# Altium footprint library PowerSupply.PcbLib: 19 footprints (part 1 of 2)
Each footprint in its own frame and in the unit in brackets; x right, y up, seen from the top. Pads: shape width x height; smd on the part's side, far side on the other; paste and mask are expansions set on the pad; w line width, h text height; cw(c..) or ccw(c..) is an arc to the next point about the centre after c.
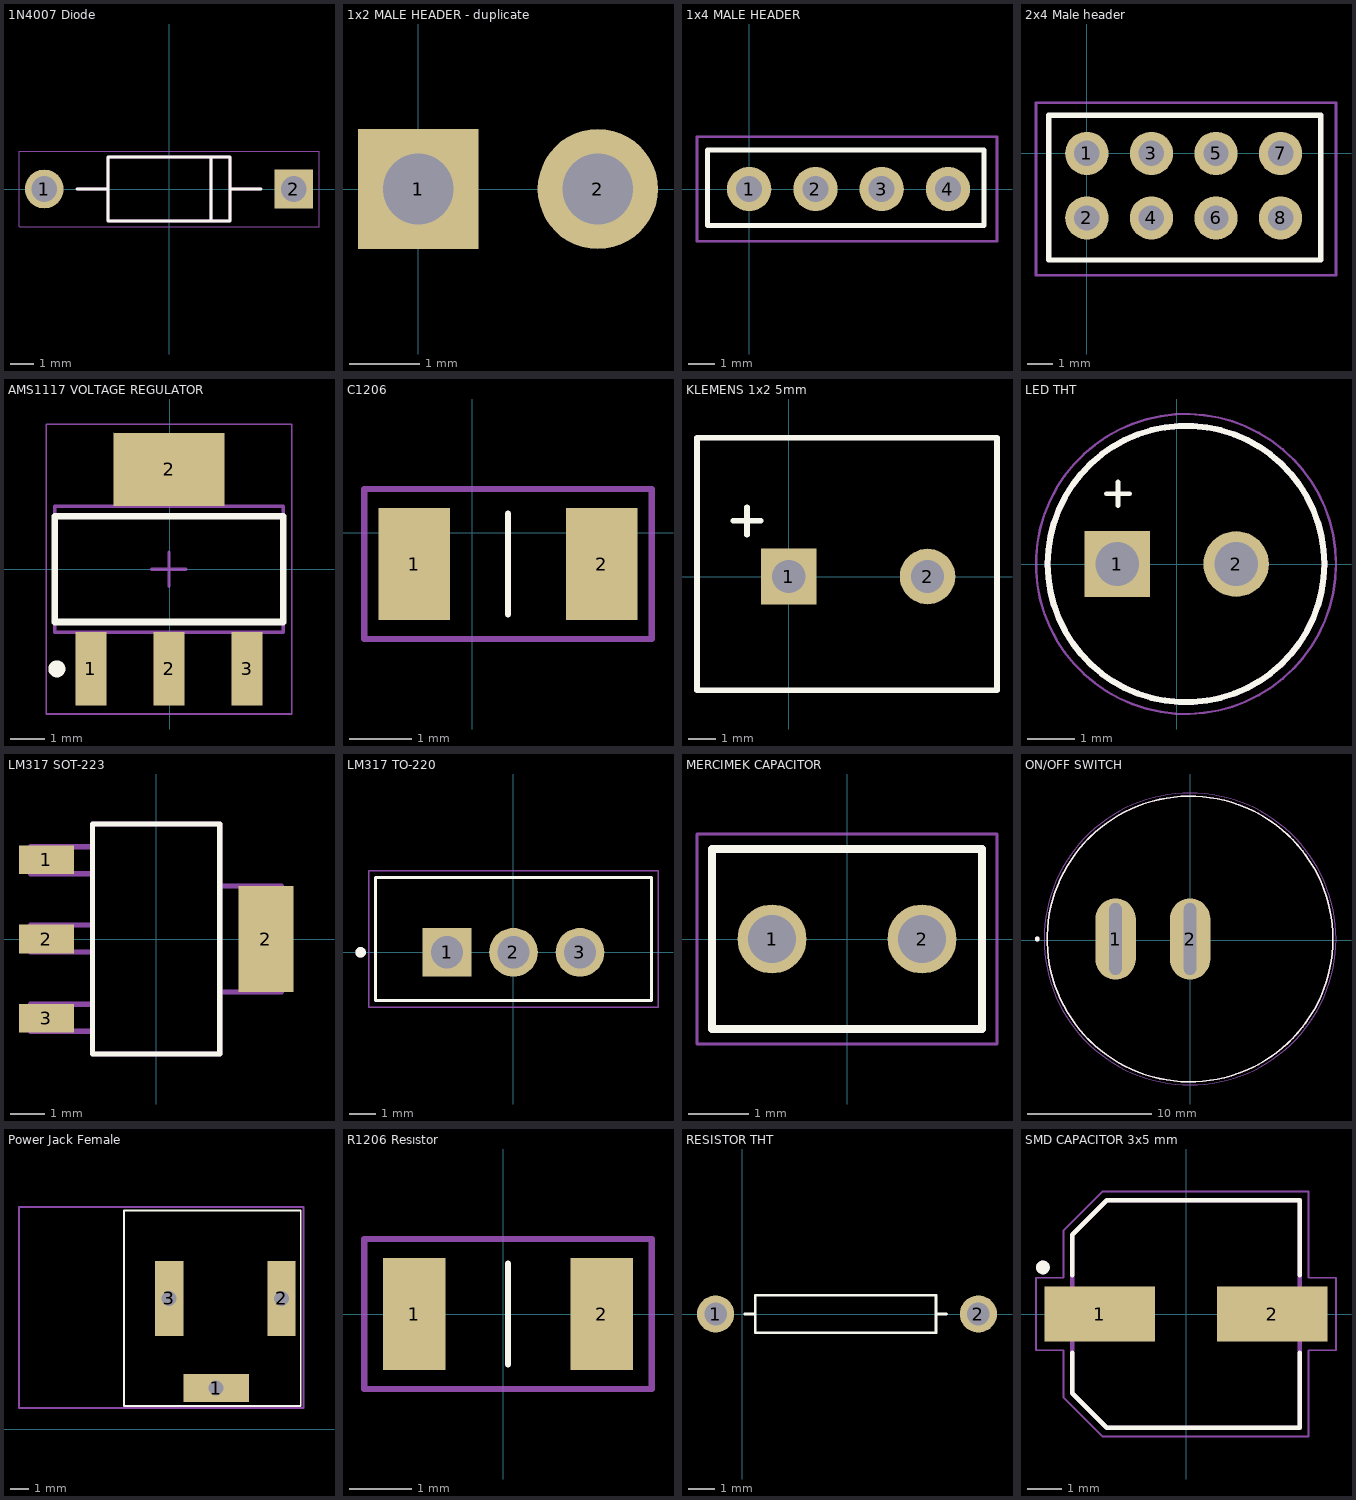
[diagram p0: the footprints below, top view; thin cyan lines are the x and y axes]

## 1N4007 Diode [mm]
pads (2):
  round 1.65 hole 1.1: 1(-5.3,0)
  rect 1.65x1.65 hole 1.1: 2(5.3,0)
Top Overlay:
  lines w0.127: -3.9,0 -2.6,0 ; 3.9,0 2.6,0 ; -2.6,0 -2.6,1.35 1.775,1.35 ; -2.6,0 -2.6,-1.35 1.775,-1.35 ; 1.775,-1.35 2.6,-1.35 2.6,0 ; 1.775,-1.35 1.775,1.35 ; 1.775,1.35 2.6,1.35 2.6,0
Mechanical 13:
  lines w0.127: -3.9,0 -2.6,0 ; 3.9,0 2.6,0 ; -2.6,0 -2.6,1.35 1.775,1.35 ; -2.6,0 -2.6,-1.35 1.775,-1.35 ; 1.775,-1.35 2.6,-1.35 2.6,0 ; 1.775,-1.35 1.775,1.35 ; 1.775,1.35 2.6,1.35 2.6,0
Mechanical 15:
  lines w0.05: -6.375,-1.6 -6.375,1.6 6.375,1.6 6.375,-1.6 -6.375,-1.6
3D body "1N4007.STEP": height 3.68, standoff -20.77, extent -5.674,-1.446 5.274,1.246

## 1x2 MALE HEADER - duplicate [mm]
pads (2):
  rect 1.7x1.7 hole 1 mask+0.05: 1(0,0)
  round 1.7 hole 1 mask+0.05: 2(2.54,0)
3D body "User Library-Header1x2.STEP": height 1.69, standoff -9.29, extent -1.24,-1.24 3.84,1.3

## 1x4 MALE HEADER [mm]
pads (4):
  round 1.7 hole 1 mask+0.05: 1(0,0) 2(2.54,0) 3(5.08,0) 4(7.62,0)
Top Overlay:
  lines w0.2: -1.6,-1.4 -1.6,1.5 9,1.5 9,-1.4 -1.6,-1.4
Mechanical 15:
  lines w0.1: -2,-2 9.5,-2 9.5,2 -2,2 -2,-2
3D body "User Library-1x4 TH Pitch 2_54mm.STEP": height 9.7, standoff -3, extent -1.38,-1.2 8.78,1.34

## 2x4 Male header [mm]
pads (8):
  round 1.7 hole 1 mask+0.05: 1(0,0) 2(0,-2.54) 3(2.54,0) 4(2.54,-2.54) 5(5.08,0) 6(5.08,-2.54) 7(7.62,0) 8(7.62,-2.54)
Top Overlay:
  lines w0.2: -1.5,-4.2 -1.5,1.5 9.2,1.5 9.2,-4.2 -1.5,-4.2
Mechanical 15:
  lines w0.1: -2,-4.8 -2,2 9.8,2 9.8,-4.8 -2,-4.8
3D body "User Library-2_54mm Male Header (4x2).STEP": height 8.84, standoff -2.7, extent -1.28,-3.78 8.88,1.2

## AMS1117 VOLTAGE REGULATOR [mm] "AMS1117 VOLTAGE REGULATOR"
height 1.8
pads (4):
  rect 0.9x2.15 smd: 1(-2.315,-2.925) 2(-0.025,-2.925) 3(2.265,-2.925)
  rect 3.25x2.15 smd: 2(-0.025,2.925)
Top Overlay:
  circle w0.25: c-3.315,-2.925 r0.125
  lines w0.2: -3.375,-1.55 -3.375,1.55 3.325,1.55 3.325,-1.55 -3.375,-1.55
Mechanical 13:
  lines w0.1: -3.375,-1.85 -3.375,1.85 3.325,1.85 3.325,-1.85 -3.375,-1.85
Mechanical 15:
  lines w0.05: -3.625,-4.25 -3.625,4.25 3.575,4.25 3.575,-4.25 -3.625,-4.25
  lines w0.1: -0.525,0 0.475,0 ; -0.025,-0.5 -0.025,0.5
3D body "SOT229P700X180-4N.step": height 1.8, standoff 0, extent -3.375,-3.5 3.325,3.5

## C1206 [mm]
pads (2):
  rect 1.15x1.8 smd mask+0.05: 1(-0.925,-0.5) 2(2.075,-0.5)
Top Overlay:
  lines w0.1: 0.575,-1.305 0.575,0.305
Mechanical 3:
  lines w0.1: -1.725,-1.7 2.875,-1.7 2.875,0.7 -1.725,0.7 -1.725,-1.7
3D body "1206CAP.step": height 1, standoff 0, extent -1.025,-1.3 2.175,0.3

## KLEMENS 1x2 5mm [mm]
pads (2):
  rect 2x2 hole 1.2: 1(0,0)
  round 2 hole 1.2: 2(5,0)
Top Overlay:
  lines w0.2: -2,2 -1,2 ; -1.5,1.5 -1.5,2.5 ; -3.3,-4.1 -3.3,5 7.5,5 7.5,-4.1 -3.3,-4.1
3D body "OSTTA020161--3DModel-STEP-56544.STEP": height 13.35, standoff -3.05, extent -3.2,-4 7.4,5

## LED THT [mm]
pads (2):
  rect 1.4x1.4 hole 0.93: 1(-1.27,0)
  round 1.4 hole 0.93: 2(1.27,0)
Top Overlay:
  circle w0.127: c0.2,0 r2.95
  lines w0.1: -1.5,1.5 -1,1.5 ; -1.25,1.25 -1.25,1.75
Mechanical 13:
  circle w0.127: c0.2,0 r2.95
Mechanical 15:
  circle w0.05: c0.2,0 r3.2
3D body "everlight-5MM-LED-GREEN.step": height 9.24, standoff -6.73, extent -2.4,-3.05 3.05,2.85

## LM317 SOT-223 [mil]
pads (4):
  rect 63x33 smd: 1(-126,91) 2(-126,0) 3(-126,-91)
  rect 63x122 smd: 2(126,0)
Top Overlay:
  lines w6: -73,-132 73,-132 73,132 -73,132 -73,-132
Mechanical 13:
  lines w6: -144,-106 -144,-75 -73,-75 -73,-106 -144,-106 ; -144,-15 -144,16 -73,16 -73,-15 -144,-15 ; -144,75 -144,106 -73,106 -73,75 -144,75 ; -73,-132 73,-132 73,132 -73,132 -73,-132 ; 73,-61 73,61 144,61 144,-61 73,-61
3D body "LM1117IMP-5.0.STEP": height 70.87, standoff 0, extent -129.92,-129.92 145.67,125.98

## LM317 TO-220 [mm]
pads (3):
  rect 1.86x1.86 hole 1.24: 1(-2.54,0)
  round 1.86 hole 1.24: 2(0,0) 3(2.54,0)
Top Overlay:
  circle w0.2: c-5.84,0 r0.1
  lines w0.127: -5.27,-1.84 -5.27,2.86 5.27,2.86 5.27,-1.84 -5.27,-1.84
Mechanical 13:
  circle w0.2: c-5.84,0 r0.1
  lines w0.127: -5.27,-1.84 -5.27,2.86 5.27,2.86 5.27,-1.84 -5.27,-1.84
Mechanical 15:
  lines w0.05: -5.52,-2.09 -5.52,3.11 5.52,3.11 5.52,-2.09 -5.52,-2.09
3D body "NOPB.STEP": height 20.86, standoff -10.38, extent -5.08,-1.485 5.08,2.71

## MERCIMEK CAPACITOR [mm]
pads (2):
  round 1.15 hole 0.8: 1(-1.25,0) 2(1.25,0)
Top Overlay:
  lines w0.127: -2.25,-1.5 -2.25,1.5 2.25,1.5 2.25,-1.5 -2.25,-1.5
Mechanical 13:
  lines w0.127: -2.25,-1.5 2.25,-1.5 2.25,1.5 -2.25,1.5 -2.25,-1.5
Mechanical 15:
  lines w0.05: -2.5,-1.75 2.5,-1.75 2.5,1.75 -2.5,1.75 -2.5,-1.75
3D body "step_temp.STEP": height 5.75, standoff -8.75, extent -2.241,-1.5 2.242,1.5

## ON/OFF SWITCH [mm]
pads (2):
  oval 3.26x6.52 hole 0.98 slot 5.78 at 90 deg: 1(-6,0.1) 2(0,0.1)
Top Overlay:
  circle w0.2: c-12.3,0.1 r0.1
  circle w0.127: c0,0.1 r11.5
Mechanical 13:
  circle w0.2: c-12.3,0.1 r0.1
  circle w0.127: c0,0.1 r11.5
Mechanical 15:
  circle w0.05: c0,0.1 r11.75
3D body "step_temp.STEP": height 16.33, standoff -8.4, extent -11.5,-11.4 11.5,11.6

## Power Jack Female [mm]
pads (3):
  rect 3.5x1.5 hole 0.8 square mask+0.051: 1(-11.5,2.2)
  rect 1.5x4 hole 0.8 square mask+0.051: 2(-8,7) 3(-14,7)
Top Overlay:
  lines w0.1: -16.425,1.25 -6.975,1.25 -6.975,11.7 -16.425,11.7 -16.425,1.25
Mechanical 3:
  lines w0.1: -6.825,1.15 -6.975,1.15 -22.025,1.15 -22.025,11.875 -6.925,11.875 -6.825,11.875 -6.825,1.2
3D body "DS-210.step": height 11, standoff -4, extent -22.1,2 -7.8,11.4

## R1206 Resıstor [mm]
pads (2):
  rect 1x1.8 smd mask+0.05: 1(-1.425,0) 2(1.575,0)
Top Overlay:
  lines w0.1: 0.075,-0.805 0.075,0.805
Mechanical 3:
  lines w0.1: -2.225,-1.2 -2.225,1.2 2.375,1.2 2.375,-1.2 -2.225,-1.2
3D body "1206RES.step": height 0.55, standoff 0, extent -1.525,-0.805 1.675,0.805

## RESISTOR THT [mm]
pads (2):
  round 1.4 hole 0.85 mask+0.051: 1(-1,0) 2(8.9,0)
Top Overlay:
  lines w0.1: 0.1,0 0.5,0 ; 7.3,0 7.7,0 ; 0.5,0 0.5,0.7 2.45,0.7 5.15,0.7 7.3,0.7 7.3,-0.7 5.15,-0.7 2.45,-0.7 0.5,-0.7 0.5,0
3D body "User Library-MF0_25W_6mm_10mm_22ohm.step": height 2.5, standoff -1.6, extent -1.225,-1.1 9.225,0.9

## SMD CAPACITOR 3x5 mm [mm]
pads (2):
  rect 3.2x1.6 smd: 1(-2.5,0) 2(2.5,0)
Top Overlay:
  circle w0.2: c-4.15,1.35 r0.1
  lines w0.127: -3.3,-1.12 -3.3,-2.3 -2.3,-3.3 3.3,-3.3 3.3,-1.12 ; -3.3,1.12 -3.3,2.3 -2.3,3.3 3.3,3.3 3.3,1.12
Mechanical 13:
  circle w0.2: c-4.15,1.35 r0.1
  lines w0.127: -3.3,-2.3 -3.3,2.3 -2.3,3.3 3.3,3.3 3.3,-3.3 -2.3,-3.3 -3.3,-2.3
Mechanical 15:
  lines w0.05: -4.35,-1.05 -3.55,-1.05 -3.55,-2.425 -2.425,-3.55 3.55,-3.55 3.55,-1.05 4.35,-1.05 4.35,1.05 3.55,1.05 3.55,3.55 -2.425,3.55 -3.55,2.425 -3.55,1.05 -4.35,1.05 -4.35,-1.05
3D body "step_temp.STEP": height 0, standoff 0, extent 0,0 0,0